# Altium integrated library STC12C5A60S2-35I-LQFP48_led流水灯_Project.IntLib: 26 symbols
Pins are listed as number, name and electrical type; pins without a type are passive.

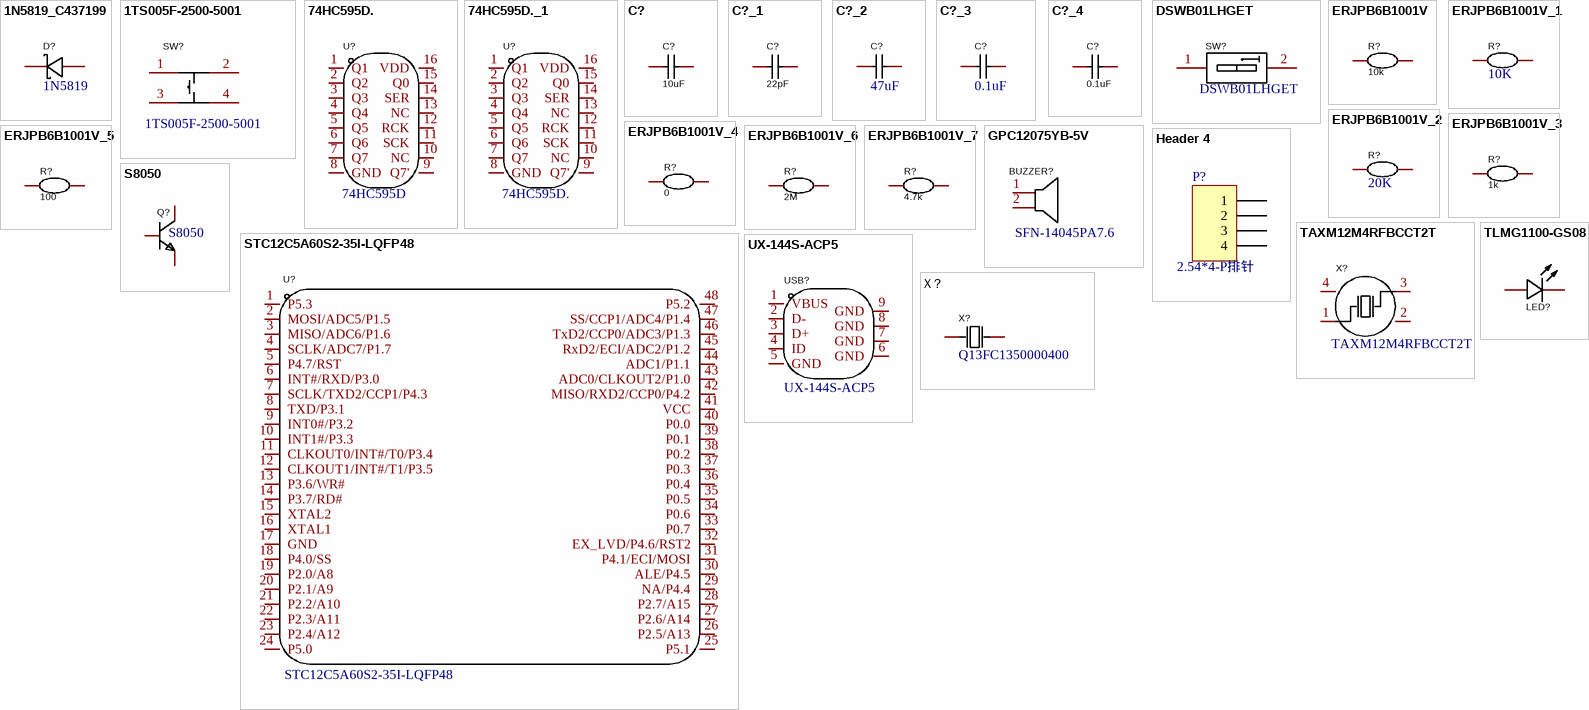
[diagram p0: symbols 1N5819_C437199 to X？]

## 1N5819_C437199
designator D?, comment 1N5819
品牌：KEXIN(科信); Symbol: 1N5819_C437199; Add into BOM: yes; Reverse Voltage (Vr): 40V; Average Rectified Current (Io): 1A; Forward Voltage (Vf@If): 500mV@1A; Name: 1N5819; Device: 1N5819_C437199; LCSC Part Name: 40V 1A 500mV@1A; Supplier Part: C437199; Manufacturer: KEXIN(科信); Manufacturer Part: 1N5819; Supplier Footprint: SMA; JLCPCB Part Class: Extended Part; Datasheet: https://atta.szlcsc.com/upload/public/pdf/source/20191012/C437199_83583E622A6684E767605E43C169C596.pdf; Supplier: LCSC; Convert to PCB: yes
footprint SMA_L4.4-W2.6-LS5.0-RD
3D model SMA_L4.4-W2.6-LS5.0-RD
pins: 1 C, 2 A

## 1TS005F-2500-5001
designator SW?
品牌： HYP(鸿源精密); Add into BOM: yes; Contact Current: 50mA; Voltage Rating (DC): 12V; Power Rating: 0.6W; Insulation Resistance: 100MΩ; Circuit: 单刀单掷; Actuator Style: 圆形按钮; Actuator/Cap Color: 黑色; With Lamp: 无; Operating Force: 250gf@±50gf; Mechanical Life: 7万次; Pin Style: 鸥翼型; Switch Length: 6mm; Switch Height: 5mm; Strike Gundam: 否; Name: 1TS005F-2500-5001; Symbol: 1TS005F-2500-5001; Device: 1TS005F-2500-5001; LCSC Part Name: 6*6*5mm 立贴 轻触开关; Supplier Part: C255812; Manufacturer: HYP(鸿源精密); Manufacturer Part: 1TS005F-2500-5001; Supplier Footprint: SMD,6x6mm; JLCPCB Part Class: Extended Part; Datasheet: https://atta.szlcsc.com/upload/public/pdf/source/20180720/C255812_0808C7D708FD1FB7246546D29134BBAD.pdf; Supplier: LCSC; Convert to PCB: yes; Mounting Style: 立贴; Operating Temperature: -40℃~+90℃; Switch Width: 6mm
footprint KEY-SMD_4P-L6.0-W6.0
3D model KEY-SMD_4P-L6.0-W6.0-P4.50-LS10.0
pins: 1, 2, 3, 4

## 74HC595D.
designator U?, comment 74HC595D
品牌： JSMSEMI(杰盛微); Symbol: 74HC595D.; Designer: U?; Device: 74HC595D.
footprint SOP-16
pins: 1 Q1, 2 Q2, 3 Q3, 4 Q4, 5 Q5, 6 Q6, 7 Q7, 8 GND, 9 Q7', 10 NC, 11 SCK, 12 RCK, 13 NC, 14 SER, 15 Q0, 16 VDD

## 74HC595D._1
designator U?, comment 74HC595D.
品牌： JSMSEMI(杰盛微); Designer: U?; Symbol: 74HC595D.; Device: 74HC595D.
footprint SOP-16
pins: 1 Q1, 2 Q2, 3 Q3, 4 Q4, 5 Q5, 6 Q6, 7 Q7, 8 GND, 9 Q7', 10 NC, 11 SCK, 12 RCK, 13 NC, 14 SER, 15 Q0, 16 VDD

## C?
designator C?  value 10uF
Manufacturer: muRata(村田); Symbol: GRM21BR60J107ME15L; Add into BOM: yes; Tolerance: ±20%; Voltage Rated: 6.3V; Temperature Coefficient: X5R; Name: 10uF; Device: GRM21BR60J107ME15L; LCSC Part Name: 100uF ±20% 6.3V; Supplier Part: C141660; Manufacturer Part: GRM21BR60J107ME15L; Supplier Footprint: 0805; JLCPCB Part Class: Extended Part; Datasheet: https://atta.szlcsc.com/upload/public/pdf/source/20171113/C141660_15105613320671115822.pdf; Supplier: LCSC; Convert to PCB: yes
footprint C0805
3D model C0805_L2.0-W1.3-H1.3
pins: 1, 2

## C?_1
designator C?  value 22pF
Manufacturer: muRata(村田); Symbol: GRM21BR60J107ME15L; Add into BOM: yes; Tolerance: ±20%; Voltage Rated: 6.3V; Temperature Coefficient: X5R; Name: 22pF; Device: GRM21BR60J107ME15L; LCSC Part Name: 100uF ±20% 6.3V; Supplier Part: C141660; Manufacturer Part: GRM21BR60J107ME15L; Supplier Footprint: 0805; JLCPCB Part Class: Extended Part; Datasheet: https://atta.szlcsc.com/upload/public/pdf/source/20171113/C141660_15105613320671115822.pdf; Supplier: LCSC; Convert to PCB: yes
footprint C0805
3D model C0805_L2.0-W1.3-H1.3
pins: 1, 2

## C?_2
designator C?, comment 47uF
Manufacturer: muRata(村田); Name: 100uF; Symbol: GRM21BR60J107ME15L; Add into BOM: yes; Value: 100uF; Tolerance: ±20%; Voltage Rated: 6.3V; Temperature Coefficient: X5R; Device: GRM21BR60J107ME15L; LCSC Part Name: 100uF ±20% 6.3V; Supplier Part: C141660; Manufacturer Part: GRM21BR60J107ME15L; Supplier Footprint: 0805; JLCPCB Part Class: Extended Part; Datasheet: https://atta.szlcsc.com/upload/public/pdf/source/20171113/C141660_15105613320671115822.pdf; Supplier: LCSC; Convert to PCB: yes
footprint C0805
3D model C0805_L2.0-W1.3-H1.3
pins: 1, 2

## C?_3
designator C?, comment 0.1uF
Manufacturer: muRata(村田); Name: 100uF; Symbol: GRM21BR60J107ME15L; Add into BOM: yes; Value: 100uF; Tolerance: ±20%; Voltage Rated: 6.3V; Temperature Coefficient: X5R; Device: GRM21BR60J107ME15L; LCSC Part Name: 100uF ±20% 6.3V; Supplier Part: C141660; Manufacturer Part: GRM21BR60J107ME15L; Supplier Footprint: 0805; JLCPCB Part Class: Extended Part; Datasheet: https://atta.szlcsc.com/upload/public/pdf/source/20171113/C141660_15105613320671115822.pdf; Supplier: LCSC; Convert to PCB: yes
footprint C0805
3D model C0805_L2.0-W1.3-H1.3
pins: 1, 2

## C?_4
designator C?  value 0.1uF
Manufacturer: muRata(村田); Symbol: GRM21BR60J107ME15L; Add into BOM: yes; Tolerance: ±20%; Voltage Rated: 6.3V; Temperature Coefficient: X5R; Name: 0.1uF; Device: GRM21BR60J107ME15L; LCSC Part Name: 100uF ±20% 6.3V; Supplier Part: C141660; Manufacturer Part: GRM21BR60J107ME15L; Supplier Footprint: 0805; JLCPCB Part Class: Extended Part; Datasheet: https://atta.szlcsc.com/upload/public/pdf/source/20171113/C141660_15105613320671115822.pdf; Supplier: LCSC; Convert to PCB: yes
footprint C0805
3D model C0805_L2.0-W1.3-H1.3
pins: 1, 2

## DSWB01LHGET
designator SW?
Manufacturer: YE; Add into BOM: yes; Circuit: 单刀单掷; Number of Positions: 1; Name: DSWB01LHGET; Symbol: DSWB01LHGET; Device: DSWB01LHGET; LCSC Part Name: 红色宽体1位顶拨插件; Supplier Part: C126888; Manufacturer Part: DSWB01LHGET; Supplier Footprint: 插件; JLCPCB Part Class: Extended Part; Datasheet: https://atta.szlcsc.com/upload/public/pdf/source/20170824/C126888_1503565979649906649.pdf; Supplier: LCSC; Convert to PCB: yes; Type: 平拨,凸起式; Lead Pitch: -; Operating Life: -; Color: 红色
footprint SW-TH_DSWB01LHGET
3D model SW-TH_2P-L4.1-W9.9-H5.4-P2.54
pins: 1 A1, 2

## ERJPB6B1001V
designator R?  value 10k
Manufacturer: PANASONIC(松下); Symbol: ERJPB6B1001V; Add into BOM: yes; Device: ERJPB6B1001V; LCSC Part Name: 1KΩ(1001) ±0.1%; Supplier Part: C413712; Manufacturer Part: ERJPB6B1001V; Supplier Footprint: 0805; JLCPCB Part Class: Extended Part; Datasheet: https://atta.szlcsc.com/upload/public/pdf/source/20190821/C413712_16C6B59B4DECA51D4907C6F5D5BAEAA8.pdf; Supplier: LCSC; Convert to PCB: yes
footprint R0805
3D model R0805_L2.0-W1.3-H0.6
pins: 1, 2

## ERJPB6B1001V_1
designator R?, comment 10K
R; Manufacturer: PANASONIC(松下); Name: ERJPB6B1001V; Add into BOM: yes; Symbol: ERJPB6B1001V; Device: ERJPB6B1001V; LCSC Part Name: 1KΩ(1001) ±0.1%; Supplier Part: C413712; Manufacturer Part: ERJPB6B1001V; Supplier Footprint: 0805; JLCPCB Part Class: Extended Part; Datasheet: https://atta.szlcsc.com/upload/public/pdf/source/20190821/C413712_16C6B59B4DECA51D4907C6F5D5BAEAA8.pdf; Supplier: LCSC; Convert to PCB: yes
footprint R0805
3D model R0805_L2.0-W1.3-H0.6
pins: 1, 2

## ERJPB6B1001V_2
designator R?, comment 20K
R; Manufacturer: PANASONIC(松下); Name: ERJPB6B1001V; Add into BOM: yes; Symbol: ERJPB6B1001V; Device: ERJPB6B1001V; LCSC Part Name: 1KΩ(1001) ±0.1%; Supplier Part: C413712; Manufacturer Part: ERJPB6B1001V; Supplier Footprint: 0805; JLCPCB Part Class: Extended Part; Datasheet: https://atta.szlcsc.com/upload/public/pdf/source/20190821/C413712_16C6B59B4DECA51D4907C6F5D5BAEAA8.pdf; Supplier: LCSC; Convert to PCB: yes
footprint R0805
3D model R0805_L2.0-W1.3-H0.6
pins: 1, 2

## ERJPB6B1001V_3
designator R?  value 1k
Manufacturer: PANASONIC(松下); Symbol: ERJPB6B1001V; Add into BOM: yes; Device: ERJPB6B1001V; LCSC Part Name: 1KΩ(1001) ±0.1%; Supplier Part: C413712; Manufacturer Part: ERJPB6B1001V; Supplier Footprint: 0805; JLCPCB Part Class: Extended Part; Datasheet: https://atta.szlcsc.com/upload/public/pdf/source/20190821/C413712_16C6B59B4DECA51D4907C6F5D5BAEAA8.pdf; Supplier: LCSC; Convert to PCB: yes
footprint R0603
3D model R0805_L2.0-W1.3-H0.6
pins: 1, 2

## ERJPB6B1001V_4
designator R?  value 0
Manufacturer: PANASONIC(松下); Symbol: ERJPB6B1001V; Add into BOM: yes; Device: ERJPB6B1001V; LCSC Part Name: 1KΩ(1001) ±0.1%; Supplier Part: C413712; Manufacturer Part: ERJPB6B1001V; Supplier Footprint: 0805; JLCPCB Part Class: Extended Part; Datasheet: https://atta.szlcsc.com/upload/public/pdf/source/20190821/C413712_16C6B59B4DECA51D4907C6F5D5BAEAA8.pdf; Supplier: LCSC; Convert to PCB: yes
footprint R0805
3D model R0805_L2.0-W1.3-H0.6
pins: 1, 2

## ERJPB6B1001V_5
designator R?  value 100
Manufacturer: PANASONIC(松下); Symbol: ERJPB6B1001V; Add into BOM: yes; Device: ERJPB6B1001V; LCSC Part Name: 1KΩ(1001) ±0.1%; Supplier Part: C413712; Manufacturer Part: ERJPB6B1001V; Supplier Footprint: 0805; JLCPCB Part Class: Extended Part; Datasheet: https://atta.szlcsc.com/upload/public/pdf/source/20190821/C413712_16C6B59B4DECA51D4907C6F5D5BAEAA8.pdf; Supplier: LCSC; Convert to PCB: yes
footprint R0805
3D model R0805_L2.0-W1.3-H0.6
pins: 1, 2

## ERJPB6B1001V_6
designator R?  value 2M
Manufacturer: PANASONIC(松下); Symbol: ERJPB6B1001V; Add into BOM: yes; Device: ERJPB6B1001V; LCSC Part Name: 1KΩ(1001) ±0.1%; Supplier Part: C413712; Manufacturer Part: ERJPB6B1001V; Supplier Footprint: 0805; JLCPCB Part Class: Extended Part; Datasheet: https://atta.szlcsc.com/upload/public/pdf/source/20190821/C413712_16C6B59B4DECA51D4907C6F5D5BAEAA8.pdf; Supplier: LCSC; Convert to PCB: yes
footprint R0805
3D model R0805_L2.0-W1.3-H0.6
pins: 1, 2

## ERJPB6B1001V_7
designator R?  value 4.7k
Manufacturer: PANASONIC(松下); Symbol: ERJPB6B1001V; Add into BOM: yes; Device: ERJPB6B1001V; LCSC Part Name: 1KΩ(1001) ±0.1%; Supplier Part: C413712; Manufacturer Part: ERJPB6B1001V; Supplier Footprint: 0805; JLCPCB Part Class: Extended Part; Datasheet: https://atta.szlcsc.com/upload/public/pdf/source/20190821/C413712_16C6B59B4DECA51D4907C6F5D5BAEAA8.pdf; Supplier: LCSC; Convert to PCB: yes
footprint R0805
3D model R0805_L2.0-W1.3-H0.6
pins: 1, 2

## GPC12075YB-5V
designator BUZZER?, comment SFN-14045PA7.6
品牌：S&S(海旭); Manufacturer: INGHAi(赢海); Name: 4000Hz; Symbol: GPC12075YB-5V; Add into BOM: yes; Oscillator Circuit: 无源(外部驱动); Technology Type: 压电式; Rated Voltage: 5V; Value: 4000Hz; Sound Pressure Level (SPL): 80dB@12V,10cm; Device: GPC12075YB-5V; LCSC Part Name: GPC12075YB-5V; Supplier Part: C252948; Manufacturer Part: GPC12075YB-5V; Supplier Footprint: -; JLCPCB Part Class: Extended Part; Datasheet: https://atta.szlcsc.com/upload/public/pdf/source/20180829/C252948_AFFEFE4B0E08148D92156D1A8E3E594F.pdf; Supplier: LCSC; Convert to PCB: yes; Diameter (φD): 12mm; Height: 7.7mm
footprint 插件,D=14mm (蜂鸣器)
3D model BUZ-TH_BD12.0-H6.0-P6.5
pins: 1, 2

## Header 4
designator P?, comment 2.54*4-P排针
生产不焊接; LatestRevisionDate: 17-Jul-2002; LatestRevisionNote: Re-released for DXP Platform.; Publisher: Altium Limited; Value: *
footprint HDR1X9 (Connector; Header; 9 Position)
signal-integrity model Connector
footprint HDR1X4 (Connector; Header; 4 Position)
pins: 1, 2, 3, 4

## S8050
designator Q?
Manufacturer: Hottech(合科泰); Symbol: S8050_C181158; Add into BOM: yes; Transistor Type: NPN; Collector-Emitter Breakdown Voltage (Vceo): 25V; Collector Current (Ic): 500mA; Power Dissipation (Pd): 300mW; Collector Cut-Off Current (Icbo): 100nA; Collector-Emitter Saturation Voltage (VCE(sat)@Ic,Ib): 600mV@500mA,50mA; Transition Frequency (fT): 150MHz; Name: S8050; Device: S8050_C181158; LCSC Part Name: NPN 25V 500mA; Supplier Part: C181158; Manufacturer Part: S8050; Supplier Footprint: SOT-23; JLCPCB Part Class: Extended Part; Datasheet: https://atta.szlcsc.com/upload/public/pdf/source/20220506/D987F39D56F2975D34EC7947E75C4ABC.pdf; Supplier: LCSC; Convert to PCB: yes; Operating Temperature: +150℃@(Tj)
footprint SOT-23
3D model SOT-23-3L_L2.9-W1.6-H1.1-LS2.8-P0.95
pins: 1, 2, 3

## STC12C5A60S2-35I-LQFP48
designator U?
Manufacturer: STC(宏晶); Add into BOM: yes; CPU Core: 51系列; CPU Maximum Speed: 35MHz; Operating Voltage Range: 4V~5.5V; Program Storage Size: 60KB; Program Memory Type: FLASH; RAM Size: 1.25KB; GPIO Ports Number: 44; ADC (Bit): 10bit; 16Bit Timer: 2; SPI: 1; Peripheral/Function: 低电压检测；看门狗；CCP捕获/比较; Watchdog: 有; Name: STC12C5A60S2-35I-LQFP48; Symbol: STC12C5A60S2-35I; Device: STC12C5A60S2-35I-LQFP48; LCSC Part Name: 51系列 35MHz; Supplier Part: C8695; Manufacturer Part: STC12C5A60S2-35I-LQFP48; Supplier Footprint: LQFP-48(7x7); JLCPCB Part Class: Extended Part; Datasheet: https://atta.szlcsc.com/upload/public/pdf/source/20120808/1457706522369.pdf; Supplier: LCSC; Convert to PCB: yes; EEPROM: -; DAC (Bit): -; PWM (Bit): -; 8Bit Timer: -; 32Bit Timer: -; CAN: -; UART/USART: 2; I2C: -; I2S: -; Universal Serial Bus: -; Internal Comparator: -; communication protocol: -; Real-Time Clock: -; Infrared Data Association: -; Low-Voltage Detect: 有; CCP Capture/Compare: 有; Secure Digital Input and Output: -; Direct Memory Access: -; Internal Oscillator: 有; Operating Temperature Range: -40℃~+85℃
footprint LQFP-48_L7.0-W7.0
3D model LQFP-48_L7.0-W7.0-H1.4-LS9.0-P0.50
pins: 1 P5.3, 2 MOSI/ADC5/P1.5, 3 MISO/ADC6/P1.6, 4 SCLK/ADC7/P1.7, 5 P4.7/RST, 6 INT#/RXD/P3.0, 7 SCLK/TXD2/CCP1/P4.3, 8 TXD/P3.1, 9 INT0#/P3.2, 10 INT1#/P3.3, 11 CLKOUT0/INT#/T0/P3.4, 12 CLKOUT1/INT#/T1/P3.5, 13 P3.6/WR#, 14 P3.7/RD#, 15 XTAL2, 16 XTAL1, 17 GND, 18 P4.0/SS, 19 P2.0/A8, 20 P2.1/A9, 21 P2.2/A10, 22 P2.3/A11, 23 P2.4/A12, 24 P5.0, 25 P5.1, 26 P2.5/A13, 27 P2.6/A14, 28 P2.7/A15, 29 NA/P4.4, 30 ALE/P4.5, 31 P4.1/ECI/MOSI, 32 EX_LVD/P4.6/RST2, 33 P0.7, 34 P0.6, 35 P0.5, 36 P0.4, 37 P0.3, 38 P0.2, 39 P0.1, 40 P0.0, 41 VCC, 42 MISO/RXD2/CCP0/P4.2, 43 ADC0/CLKOUT2/P1.0, 44 ADC1/P1.1, 45 RxD2/ECI/ADC2/P1.2, 46 TxD2/CCP0/ADC3/P1.3, 47 SS/CCP1/ADC4/P1.4, 48 P5.2

## TAXM12M4RFBCCT2T
designator X?
品牌： TAE(雅晶鑫); Name: 12MHz; Symbol: SMD-3225_4P12M12PF10PPM; Add into BOM: yes; Crystal Type: 贴片无源晶振; Value: 12MHz; Frequency Tolerance: ±10ppm; Frequency Stability: ±50ppm; Load Capacitance: 12pF; Equivalent Series Resistance (ESR): 80Ω; Device: TAXM12M4RFBCCT2T; LCSC Part Name: 12MHz ±10ppm 12pF; Supplier Part: C133337; Manufacturer: TAE(雅晶鑫); Manufacturer Part: TAXM12M4RFBCCT2T; Supplier Footprint: SMD3225-4P; JLCPCB Part Class: Extended Part; Datasheet: https://atta.szlcsc.com/upload/public/pdf/source/20171014/C133337_15079754979871038234.pdf; Supplier: LCSC; Convert to PCB: yes; Operating Temperature: -
footprint SMD3225-4P
3D model OSC-SMD_4P-L3.2-W2.5-H1.0
pins: 1 OSC1, 2 GND, 3 OSC2, 4 GND

## TLMG1100-GS08
designator LED?  (value not drawn)
LED?; Manufacturer: VISHAY(威世); Add into BOM: yes; Illumination Color: 普绿/黄绿; Luminous Intensity (IF=20mA): 35mcd; Dominant Wavelength / Coordinate rank: 570nm; Name: TLMG1100-GS08; Symbol: TLMG1100-GS08; Device: TLMG1100-GS08; LCSC Part Name: 普绿/黄绿 0603; Supplier Part: C241891; Manufacturer Part: TLMG1100-GS08; Supplier Footprint: 0603; JLCPCB Part Class: Extended Part; Datasheet: https://atta.szlcsc.com/upload/public/pdf/source/20180719/C241891_3C76D4DD30CDE57601F75DEAAAECA69D.pdf; Supplier: LCSC; Convert to PCB: yes; Mounting Type: 表面贴装; Correlated Color Temperature - CCT(K): -; Luminous Flux/Radiant Flux: -
footprint LED0603
3D model LED0603-RD_GREEN
pins: 1 A, 2 K

## UX-144S-ACP5
designator USB?
品牌： XUNPU(讯普); Add into BOM: yes; Connector Type: Mini-B; Gender: 母座; Number of Contacts: 5; Number of Ports: 1; Current Rating - Power (Max): 1.5A; Welding Temperature (Max): 260℃; Name: UX-144S-ACP5; Symbol: UX-144S-ACP5; Device: UX-144S-ACP5; LCSC Part Name: Mini-B 母座 卧贴; Supplier Part: C720611; Manufacturer: XUNPU(讯普); Manufacturer Part: UX-144S-ACP5; Supplier Footprint: SMD,9.20x7.50x3.85mm; JLCPCB Part Class: Extended Part; Supplier: LCSC; Convert to PCB: yes; Standard: USB 2.0; Mounting Style: 卧贴; Operating Temperature Range: -20℃~+70℃
footprint MINI-USB-SMD_UX-144S-ACP5
3D model MINI-USB-SMD_UX-144S-ACP5
pins: 1 VBUS, 2 D-, 3 D+, 4 ID, 5 GND, 6 GND, 7 GND, 8 GND, 9 GND

## X？
designator X?, comment Q13FC1350000400
品牌： EPSON(爱普生); Manufacturer: KDS(大真空); Symbol: DST310S 32.768KHz; Add into BOM: yes; Name: -; Device: DST310S 32.768KHz; LCSC Part Name: 32.768KHz 12.5PF 20ppm; Supplier Part: C93232; Manufacturer Part: DST310S 32.768KHz; Supplier Footprint: SMD3215-2P; JLCPCB Part Class: Extended Part; Datasheet: https://atta.szlcsc.com/upload/public/pdf/source/20170919/C93232_1505799689477977622.pdf; Supplier: LCSC; Convert to PCB: yes; Crystal Type: -; Value: -; Load Capacitance: -; Operating Temperature: -
footprint SMD3215-2P (FC-135晶振)
3D model OSC-SMD_L3.2-W1.5-H0.8
pins: 1 OSC1, 2 OSC2